# Altium schematic symbol library 0530480410.SchLib: 1 symbol
Pins are listed as number, name and electrical type; pins without a type are passive.

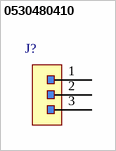
[diagram p0: symbol 0530480410]

## 0530480410
designator J?
= Description; Manufacturer: CNC Tech; Manufacturer Part Number: 51025-03-0100-01; Supplier 1: Digi-Key; Stock 1: 14384; Pricing 1: 1=0.16000, 10=0.12400, 100=0.09140, 500=0.07560, 1000=0.06615, 5000=0.05670, 10000=0.05513 (USD); Supplier Part Number 1: 1175-51025-03-0100-01-ND
pins: 1, 2, 3